# Altium footprint library Mosfet.PcbLib: 5 footprints
Each footprint in its own frame and in the unit in brackets; x right, y up, seen from the top. Pads: shape width x height; smd on the part's side, far side on the other; paste and mask are expansions set on the pad; w line width, h text height; cw(c..) or ccw(c..) is an arc to the next point about the centre after c.
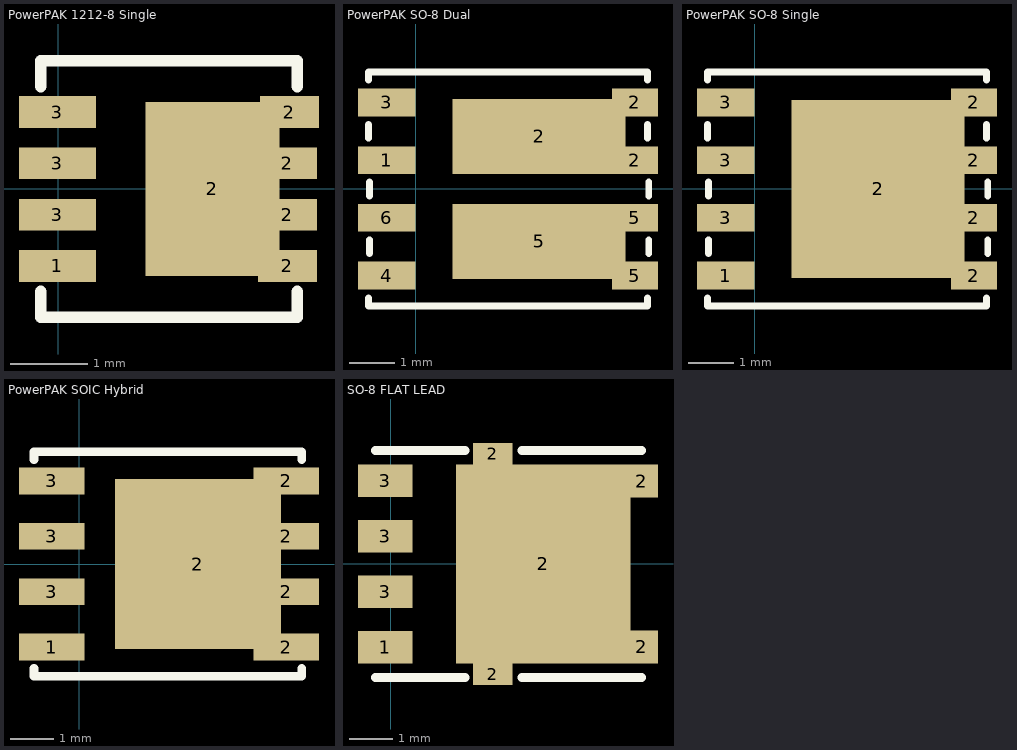
[diagram p0: the footprints below, top view; thin cyan lines are the x and y axes]

## PowerPAK 1212-8 Single [mil] "PowerPAK 1212-8 Single based on Vishay (http://www.vishay.com/docs/72286/an826.pdf)"
height 39.37
pads (9):
  rect 39x16 smd mask+2: 1(-0.5,-39) 3(-0.5,-13) 3(-0.5,13) 3(-0.5,39)
  rect 68x88 smd mask+2: 2(78,0)
  rect 30x16 smd mask+2: 2(116,-39) 2(116,-13) 2(116,13) 2(117,39)
Top Overlay:
  lines w6: -9,-52 -9,-64.96 121,-64.96 121,-52 ; -9,52 -9,64.96 121,64.96 121,52

## PowerPAK SO-8 Dual [mil] "PowerPAK SO-8 Dual based on Vishay (http://www.vishay.com/docs/72286/an826.pdf)"
height 39.37
pads (10):
  rect 50x24 smd mask+4: 1(-25,25) 3(-25,75) 4(-25,-75) 6(-25,-25)
  rect 150x65 smd mask+4: 2(107,45.5) 5(107,-45.5)
  rect 40x24 smd mask+4: 2(190,25) 2(190,75) 5(190,-75) 5(190,-25)
Top Overlay:
  lines w6: -41.06,-94.49 -41.06,-101.38 201.06,-101.38 201.06,-94.49 ; -41.06,94.49 -41.06,101.38 201.06,101.38 201.06,94.49 ; -41,44 -41,56 ; -40,-56 -40,-44 ; -40,-6 -40,6 ; 201,44 201,56 ; 202,-56 202,-44 ; 202,-6 202,6

## PowerPAK SO-8 Single [mil] "PowerPAK SO-8 Single based on Vishay (http://www.vishay.com/docs/72286/an826.pdf)"
height 39.37
pads (9):
  rect 50x24 smd mask+4: 1(-25,-75) 3(-25,-25) 3(-25,25) 3(-25,75)
  rect 150x154 smd mask+4: 2(107,0)
  rect 40x24 smd mask+4: 2(190,-75) 2(190,-25) 2(190,25) 2(190,75)
Top Overlay:
  lines w6: -41.06,-94.49 -41.06,-101.38 201.06,-101.38 201.06,-94.49 ; -41.06,94.49 -41.06,101.38 201.06,101.38 201.06,94.49 ; -41,44 -41,56 ; -40,-56 -40,-44 ; -40,-6 -40,6 ; 201,44 201,56 ; 202,-56 202,-44 ; 202,-6 202,6

## PowerPAK SOIC Hybrid [mm] "PowerPAK SO-8 Single based on Vishay (http://www.vishay.com/docs/72286/an826.pdf)"
height 3
pads (9):
  rect 1.5x0.61 smd mask+0.025: 1(-0.635,-1.905) 2(4.75,-1.905) 2(4.75,-0.635) 2(4.75,0.635) 2(4.75,1.905) 3(-0.635,-0.635) 3(-0.635,0.635) 3(-0.635,1.905)
  rect 3.81x3.912 smd paste-2 mask+0.051: 2(2.718,0)
Top Overlay:
  lines w0.2: -1.043,-2.4 -1.043,-2.575 5.107,-2.575 5.107,-2.4 ; -1.043,2.4 -1.043,2.575 5.107,2.575 5.107,2.4
Top Paste:
  rectangle: 1.143,-1.651 2.413,-0.254
  rectangle: 1.143,0.254 2.413,1.651
  rectangle: 2.921,0.254 4.191,1.651
  rectangle: 2.921,-1.651 4.191,-0.254
3D body: height 1.6, standoff 0, extent -0.963,-2.487 5.027,2.413

## SO-8 FLAT LEAD [mm] "SO-8 Mosfet based on On Semi NTMFS4833N (CASE 488AA)"
height 1.1
pads (9):
  rect 1.25x0.75 smd mask+0.102: 1(-0.125,-1.905) 3(-0.125,-0.635) 3(-0.125,0.635) 3(-0.125,1.905)
  rect 0.9x0.5 smd paste-1 mask+0.026: 2(2.34,-2.525) 2(2.34,2.525)
  rect 4x4.55 smd paste-2 mask+0.026: 2(3.5,0)
  rect 0.75x0.75 smd paste-1 mask+0.026: 2(5.75,-1.9) 2(5.75,1.9)
Top Overlay:
  lines w0.2: -0.35,-2.6 1.7,-2.6 ; -0.35,2.6 1.7,2.6 ; 3,-2.6 5.75,-2.6 ; 3,2.6 5.75,2.6
Top Paste:
  rectangle: 2,0.25 5,1.75
  rectangle: 2,-1.75 5,-0.25
3D body: height 1.1, standoff 0, extent -0.35,-2.6 5.75,2.6